# EAGLE library part LTS_X-NP (library sc_usercreated)
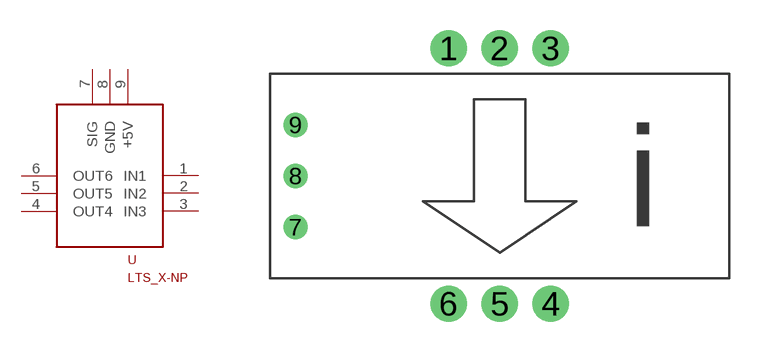
[diagram p3: symbol with the pads of LTS_X-NP; footprint LTS_X-NP]

Designator prefix U

## LTS_X-NP  [LTS_X-NP]
1  IN1
2  IN2
3  IN3
4  OUT4
5  OUT5
6  OUT6
7  SIG
8  GND
9  +5V

## Footprint LTS_X-NP (pad centres in mm)
drill 1.2 round: 1 -2.54,6.35; 2 0,6.35; 3 2.54,6.35; 4 2.54,-6.35; 5 0,-6.35; 6 -2.54,-6.35
drill 0.7 round: 7 -10.16,-2.54; 8 -10.16,0; 9 -10.16,2.54